# EAGLE library part SC08-11SRWA (library MyComponents)
20.32mm (0.8INCH) SINGLE DIGIT NUMERIC DISPLAY
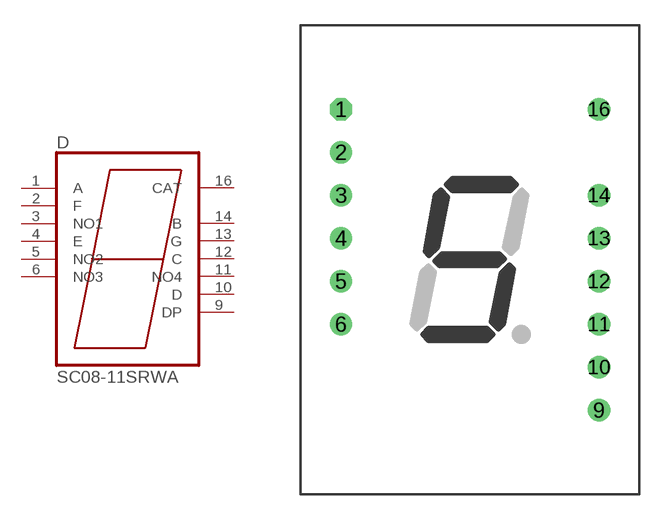
[diagram p0: symbol with the pads of SC08-11SRWA; footprint SC08-11SRWA]

Designator prefix D

## SC08-11SRWA  [SC08-11SRWA]
1  A  in
2  F  in
3  NO1
4  E  in
5  NO2
6  NO3
9  DP
10  D  in
11  NO4
12  C  in
13  G  in
14  B  in
16  CAT

## Footprint SC08-11SRWA (pad centres in mm)
20.32mm (0.8INCH) SINGLE DIGIT NUMERIC DISPLAY
drill 0.813 octagon: 1 -7.62,8.89
drill 0.813: 2 -7.62,6.35; 3 -7.62,3.81; 4 -7.62,1.27; 5 -7.62,-1.27; 6 -7.62,-3.81; 9 7.62,-8.89; 10 7.62,-6.35; 11 7.62,-3.81; 12 7.62,-1.27; 13 7.62,1.27; 14 7.62,3.81; 16 7.62,8.89